# Altium integrated library Resistors.IntLib: 4954 symbols (part 4 of 32)
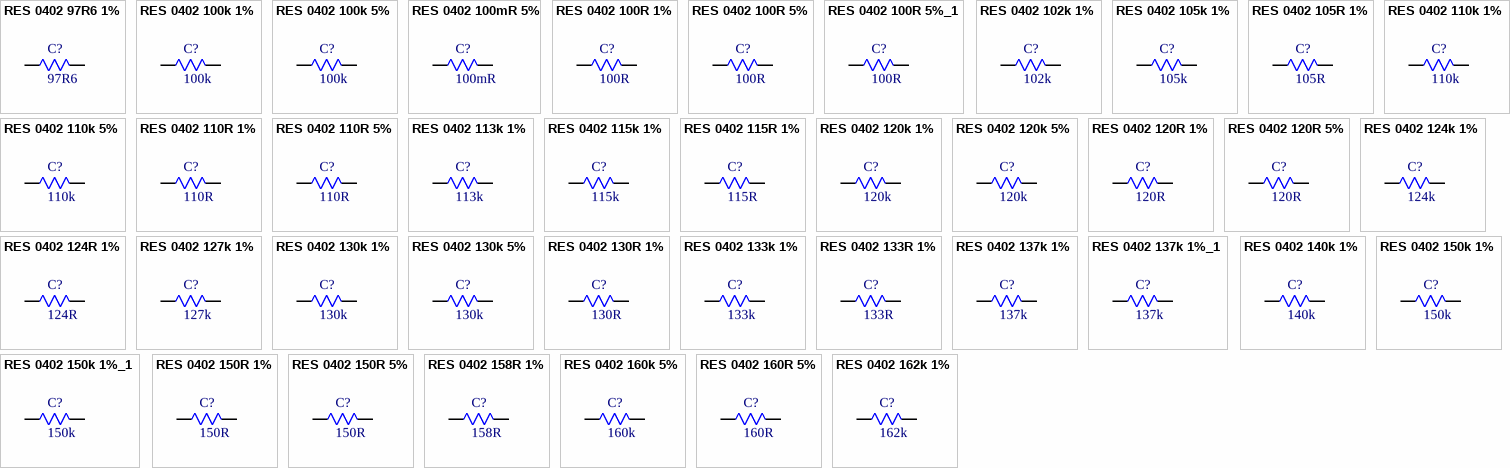
[diagram p126: symbols RES 0402 97R6 1% to RES 0402 162k 1%]

## RES 0402 158R 1%
designator C?, comment 158R
62.5mW 158R 50V Thick Film Resistor 100ppm/â„ƒ 1% 0402 Chip Resistor - Surface Mount RoHS; Manufacturer: FOJAN; Manufacturer Part Number: FRC0402F1580TS; Supplier: LCSC; Supplier Part Number: C48533705; Resistance: 158R; Tolerance: 1%; Voltage Rating: 50V; Power: 62.5mW
footprint RES SMD 0402
pins: 1, 2

## RES 0402 160k 5%
designator C?, comment 160k
62.5mW 160kR 50V Thick Film Resistor 5% 100ppm/â„ƒ 0402 Chip Resistor - Surface Mount RoHS; Manufacturer: FOJAN; Manufacturer Part Number: FRC0402J164 TS; Supplier: LCSC; Supplier Part Number: C7467320; Resistance: 160k; Tolerance: 5%; Voltage Rating: 50V; Power: 62.5mW
footprint RES SMD 0402
pins: 1, 2

## RES 0402 160R 5%
designator C?, comment 160R
160R 5% 62.5mW 0402 Thick Film Resistor; Manufacturer: FOJAN; Manufacturer Part Number: FRC0402J161TS; Voltage Rating: 50V; Supplier: LCSC; Supplier Part Number: C2929908; Resistance: 160R; Tolerance: 5%; Power: 62.5mW
footprint RES SMD 0402
pins: 1, 2

## RES 0402 162k 1%
designator C?, comment 162k
162kR 1% 62.5mW 0402 Thick Film Resistor; Manufacturer: FOJAN; Manufacturer Part Number: FRC0402F1623TS; Voltage Rating: 50V; Supplier: LCSC; Supplier Part Number: C2998128; Resistance: 162k; Tolerance: 1%; Power: 62.5mW
footprint RES SMD 0402
pins: 1, 2

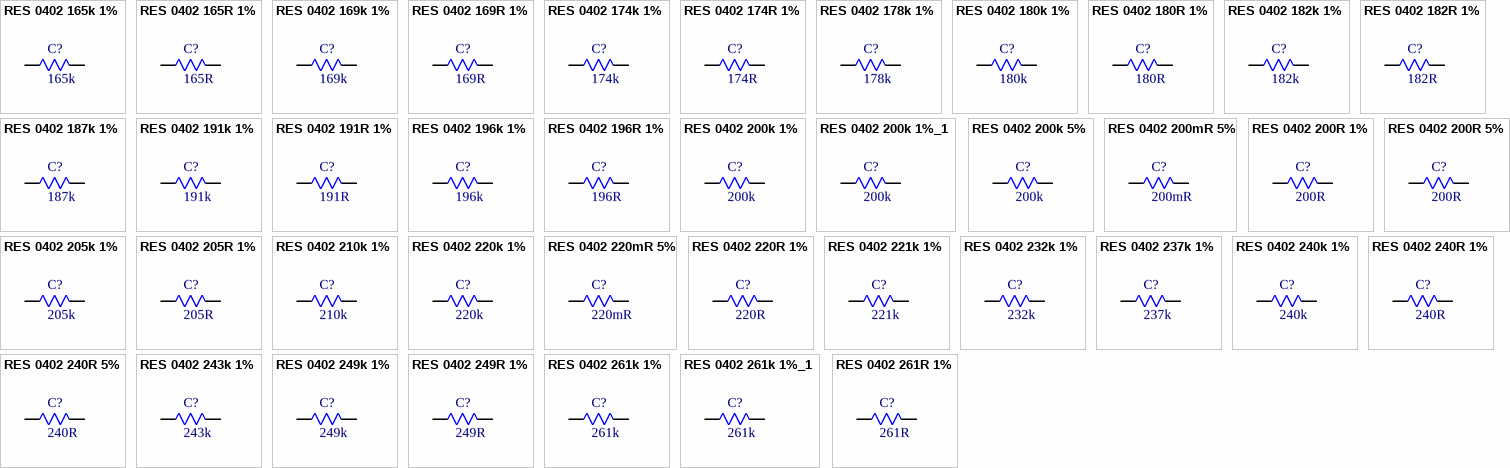
[diagram p12: symbols RES 0402 165k 1% to RES 0402 261R 1%]

## RES 0402 165k 1%
designator C?, comment 165k
165kR 1% 62.5mW 0402 Thick Film Resistor; Manufacturer: FOJAN; Manufacturer Part Number: FRC0402F1653TS; Voltage Rating: 50V; Supplier: LCSC; Supplier Part Number: C2998078; Resistance: 165k; Tolerance: 1%; Power: 62.5mW
footprint RES SMD 0402
pins: 1, 2

## RES 0402 165R 1%
designator C?, comment 165R
165R 1% 62.5mW 0402 Thick Film Resistor; Manufacturer: FOJAN; Manufacturer Part Number: FRC0402F1650TS; Voltage Rating: 50V; Supplier: LCSC; Supplier Part Number: C5159678; Resistance: 165R; Tolerance: 1%; Power: 62.5mW
footprint RES SMD 0402
pins: 1, 2

## RES 0402 169k 1%
designator C?, comment 169k
169kR 1% 62.5mW 0402 Thick Film Resistor; Manufacturer: FOJAN; Manufacturer Part Number: FRC0402F1693TS; Voltage Rating: 50V; Supplier: LCSC; Supplier Part Number: C2974012; Resistance: 169k; Tolerance: 1%; Power: 62.5mW
footprint RES SMD 0402
pins: 1, 2

## RES 0402 169R 1%
designator C?, comment 169R
169R 1% 62.5mW 0402 Thick Film Resistor; Manufacturer: FOJAN; Manufacturer Part Number: FRC0402F1690TS; Voltage Rating: 50V; Supplier: LCSC; Supplier Part Number: C5126024; Resistance: 169R; Tolerance: 1%; Power: 62.5mW
footprint RES SMD 0402
pins: 1, 2

## RES 0402 174k 1%
designator C?, comment 174k
174kR 62.5mW 50V Thick Film Resistor 1% 0402 Chip Resistor - Surface Mount RoHS; Manufacturer: FOJAN; Manufacturer Part Number: FRC0402F1743TS; Supplier: LCSC; Supplier Part Number: C51048350; Resistance: 174k; Tolerance: 1%; Voltage Rating: 50V; Power: 62.5mW
footprint RES SMD 0402
pins: 1, 2

## RES 0402 174R 1%
designator C?, comment 174R
174R 1% 62.5mW 0402 Thick Film Resistor; Manufacturer: FOJAN; Manufacturer Part Number: FRC0402F1740TS; Voltage Rating: 50V; Supplier: LCSC; Supplier Part Number: C5121513; Resistance: 174R; Tolerance: 1%; Power: 62.5mW
footprint RES SMD 0402
pins: 1, 2

## RES 0402 178k 1%
designator C?, comment 178k
178kR 1% 62.5mW 0402 Thick Film Resistor; Manufacturer: FOJAN; Manufacturer Part Number: FRC0402F1783TS; Voltage Rating: 50V; Supplier: LCSC; Supplier Part Number: C3013156; Resistance: 178k; Tolerance: 1%; Power: 62.5mW
footprint RES SMD 0402
pins: 1, 2

## RES 0402 180k 1%
designator C?, comment 180k
180kR 1% 62.5mW 0402 Thick Film Resistor; Manufacturer: FOJAN; Manufacturer Part Number: FRC0402F1803TS; Voltage Rating: 50V; Supplier: LCSC; Supplier Part Number: C2909325; Resistance: 180k; Tolerance: 1%; Power: 62.5mW
footprint RES SMD 0402
pins: 1, 2

## RES 0402 180R 1%
designator C?, comment 180R
180R 1% 62.5mW 0402 Thick Film Resistor; Manufacturer: FOJAN; Manufacturer Part Number: FRC0402F1800TS; Voltage Rating: 50V; Supplier: LCSC; Supplier Part Number: C2909326; Resistance: 180R; Tolerance: 1%; Power: 62.5mW
footprint RES SMD 0402
pins: 1, 2

## RES 0402 182k 1%
designator C?, comment 182k
182kR 1% 62.5mW 0402 Thick Film Resistor; Manufacturer: FOJAN; Manufacturer Part Number: FRC0402F1823TS; Voltage Rating: 50V; Supplier: LCSC; Supplier Part Number: C5159679; Resistance: 182k; Tolerance: 1%; Power: 62.5mW
footprint RES SMD 0402
pins: 1, 2

## RES 0402 182R 1%
designator C?, comment 182R
182R 1% 62.5mW 0402 Thick Film Resistor; Manufacturer: FOJAN; Manufacturer Part Number: FRC0402F1820TS; Voltage Rating: 50V; Supplier: LCSC; Supplier Part Number: C5121515; Resistance: 182R; Tolerance: 1%; Power: 62.5mW
footprint RES SMD 0402
pins: 1, 2

## RES 0402 187k 1%
designator C?, comment 187k
187kR 1% 62.5mW 0402 Thick Film Resistor; Manufacturer: FOJAN; Manufacturer Part Number: FRC0402F1873TS; Voltage Rating: 50V; Supplier: LCSC; Supplier Part Number: C2960791; Resistance: 187k; Tolerance: 1%; Power: 62.5mW
footprint RES SMD 0402
pins: 1, 2

## RES 0402 191k 1%
designator C?, comment 191k
191kR 1% 62.5mW 0402 Thick Film Resistor; Manufacturer: FOJAN; Manufacturer Part Number: FRC0402F1913TS; Voltage Rating: 50V; Supplier: LCSC; Supplier Part Number: C2998070; Resistance: 191k; Tolerance: 1%; Power: 62.5mW
footprint RES SMD 0402
pins: 1, 2

## RES 0402 191R 1%
designator C?, comment 191R
191R 1% 62.5mW 0402 Thick Film Resistor; Manufacturer: FOJAN; Manufacturer Part Number: FRC0402F1910TS; Voltage Rating: 50V; Supplier: LCSC; Supplier Part Number: C5126203; Resistance: 191R; Tolerance: 1%; Power: 62.5mW
footprint RES SMD 0402
pins: 1, 2

## RES 0402 196k 1%
designator C?, comment 196k
196kR 1% 62.5mW 0402 Thick Film Resistor; Manufacturer: FOJAN; Manufacturer Part Number: FRC0402F1963TS; Voltage Rating: 50V; Supplier: LCSC; Supplier Part Number: C3013157; Resistance: 196k; Tolerance: 1%; Power: 62.5mW
footprint RES SMD 0402
pins: 1, 2

## RES 0402 196R 1%
designator C?, comment 196R
62.5mW 196R 50V Thick Film Resistor 100ppm/â„ƒ 1% 0402 Chip Resistor - Surface Mount RoHS; Manufacturer: FOJAN; Manufacturer Part Number: FRC0402F1960TS; Supplier: LCSC; Supplier Part Number: C51048257; Resistance: 196R; Tolerance: 1%; Voltage Rating: 50V; Power: 62.5mW
footprint RES SMD 0402
pins: 1, 2

## RES 0402 200k 1%
designator C?, comment 200k
200kR 1% 62.5mW 0402 Thick Film Resistor; Manufacturer: FOJAN; Manufacturer Part Number: FRC0402F2003TS; Voltage Rating: 50V; Supplier: LCSC; Supplier Part Number: C2906866; Resistance: 200k; Tolerance: 1%; Power: 62.5mW
footprint RES SMD 0402
pins: 1, 2

## RES 0402 200k 1%_1
designator C?, comment 200k
200kR 62.5mW 50V Thick Film Resistor 1% 0402 Chip Resistor - Surface Mount RoHS; Manufacturer: FOJAN; Manufacturer Part Number: FRQ0402F2003TS; Supplier: LCSC; Supplier Part Number: C51048240; Resistance: 200k; Tolerance: 1%; Voltage Rating: 50V; Power: 62.5mW
footprint RES SMD 0402
pins: 1, 2

## RES 0402 200k 5%
designator C?, comment 200k
200kR 5% 62.5mW 0402 Thick Film Resistor; Manufacturer: FOJAN; Manufacturer Part Number: FRC0402J204 TS; Voltage Rating: 50V; Supplier: LCSC; Supplier Part Number: C2906907; Resistance: 200k; Tolerance: 5%; Power: 62.5mW
footprint RES SMD 0402
pins: 1, 2

## RES 0402 200mR 5%
designator C?, comment 200mR
62.5mW 200mR Thick Film Resistor 5% 600ppm/â„ƒ 0402 Chip Resistor - Surface Mount RoHS; Manufacturer: FOJAN; Manufacturer Part Number: FRL0402JR200TS; Supplier: LCSC; Supplier Part Number: C7467478; Resistance: 200mR; Tolerance: 5%; Power: 62.5mW
footprint RES SMD 0402
pins: 1, 2

## RES 0402 200R 1%
designator C?, comment 200R
200R 1% 62.5mW 0402 Thick Film Resistor; Manufacturer: FOJAN; Manufacturer Part Number: FRC0402F2000TS; Voltage Rating: 50V; Supplier: LCSC; Supplier Part Number: C2909333; Resistance: 200R; Tolerance: 1%; Power: 62.5mW
footprint RES SMD 0402
pins: 1, 2

## RES 0402 200R 5%
designator C?, comment 200R
200R 5% 62.5mW 0402 Thick Film Resistor; Manufacturer: FOJAN; Manufacturer Part Number: FRC0402J201 TS; Voltage Rating: 50V; Supplier: LCSC; Supplier Part Number: C2906908; Resistance: 200R; Tolerance: 5%; Power: 62.5mW
footprint RES SMD 0402
pins: 1, 2

## RES 0402 205k 1%
designator C?, comment 205k
205kR 1% 62.5mW 0402 Thick Film Resistor; Manufacturer: FOJAN; Manufacturer Part Number: FRC0402F2053TS; Voltage Rating: 50V; Supplier: LCSC; Supplier Part Number: C5713267; Resistance: 205k; Tolerance: 1%; Power: 62.5mW
footprint RES SMD 0402
pins: 1, 2

## RES 0402 205R 1%
designator C?, comment 205R
205R 1% 62.5mW 0402 Thick Film Resistor; Manufacturer: FOJAN; Manufacturer Part Number: FRC0402F2050TS; Voltage Rating: 50V; Supplier: LCSC; Supplier Part Number: C2933080; Resistance: 205R; Tolerance: 1%; Power: 62.5mW
footprint RES SMD 0402
pins: 1, 2

## RES 0402 210k 1%
designator C?, comment 210k
210kR 1% 62.5mW 0402 Thick Film Resistor; Manufacturer: FOJAN; Manufacturer Part Number: FRC0402F2103TS; Voltage Rating: 50V; Supplier: LCSC; Supplier Part Number: C2998176; Resistance: 210k; Tolerance: 1%; Power: 62.5mW
footprint RES SMD 0402
pins: 1, 2

## RES 0402 220k 1%
designator C?, comment 220k
220kR 1% 62.5mW 0402 Thick Film Resistor; Manufacturer: FOJAN; Manufacturer Part Number: FRC0402F2203TS; Voltage Rating: 50V; Supplier: LCSC; Supplier Part Number: C2909335; Resistance: 220k; Tolerance: 1%; Power: 62.5mW
footprint RES SMD 0402
pins: 1, 2

## RES 0402 220mR 5%
designator C?, comment 220mR
62.5mW 220mR Thick Film Resistor 300ppm/â„ƒ 5% 0402 Chip Resistor - Surface Mount RoHS; Manufacturer: FOJAN; Manufacturer Part Number: FRL0402JR220TS; Supplier: LCSC; Supplier Part Number: C7467765; Resistance: 220mR; Tolerance: 5%; Power: 62.5mW
footprint RES SMD 0402
pins: 1, 2

## RES 0402 220R 1%
designator C?, comment 220R
220R 1% 62.5mW 0402 Thick Film Resistor; Manufacturer: FOJAN; Manufacturer Part Number: FRC0402F2200TS; Voltage Rating: 50V; Supplier: LCSC; Supplier Part Number: C2909336; Resistance: 220R; Tolerance: 1%; Power: 62.5mW
footprint RES SMD 0402
pins: 1, 2

## RES 0402 221k 1%
designator C?, comment 221k
221kR 1% 62.5mW 0402 Thick Film Resistor; Manufacturer: FOJAN; Manufacturer Part Number: FRC0402F2213TS; Voltage Rating: 50V; Supplier: LCSC; Supplier Part Number: C2998126; Resistance: 221k; Tolerance: 1%; Power: 62.5mW
footprint RES SMD 0402
pins: 1, 2

## RES 0402 232k 1%
designator C?, comment 232k
232kR 1% 62.5mW 0402 Thick Film Resistor; Manufacturer: FOJAN; Manufacturer Part Number: FRC0402F2323TS; Voltage Rating: 50V; Supplier: LCSC; Supplier Part Number: C3013159; Resistance: 232k; Tolerance: 1%; Power: 62.5mW
footprint RES SMD 0402
pins: 1, 2

## RES 0402 237k 1%
designator C?, comment 237k
62.5mW 237kR 50V Thick Film Resistor 1% 100ppm/â„ƒ 0402 Chip Resistor - Surface Mount RoHS; Manufacturer: FOJAN; Manufacturer Part Number: FRC0402F2373TS; Supplier: LCSC; Supplier Part Number: C7467462; Resistance: 237k; Tolerance: 1%; Voltage Rating: 50V; Power: 62.5mW
footprint RES SMD 0402
pins: 1, 2

## RES 0402 240k 1%
designator C?, comment 240k
240kR 1% 62.5mW 0402 Thick Film Resistor; Manufacturer: FOJAN; Manufacturer Part Number: FRC0402F2403TS; Voltage Rating: 50V; Supplier: LCSC; Supplier Part Number: C2909338; Resistance: 240k; Tolerance: 1%; Power: 62.5mW
footprint RES SMD 0402
pins: 1, 2

## RES 0402 240R 1%
designator C?, comment 240R
240R 1% 62.5mW 0402 Thick Film Resistor; Manufacturer: FOJAN; Manufacturer Part Number: FRC0402F2400TS; Voltage Rating: 50V; Supplier: LCSC; Supplier Part Number: C2909339; Resistance: 240R; Tolerance: 1%; Power: 62.5mW
footprint RES SMD 0402
pins: 1, 2

## RES 0402 240R 5%
designator C?, comment 240R
240R 5% 62.5mW 0402 Thick Film Resistor; Manufacturer: FOJAN; Manufacturer Part Number: FRC0402J241 TS; Voltage Rating: 50V; Supplier: LCSC; Supplier Part Number: C2906916; Resistance: 240R; Tolerance: 5%; Power: 62.5mW
footprint RES SMD 0402
pins: 1, 2

## RES 0402 243k 1%
designator C?, comment 243k
243kR 1% 62.5mW 0402 Thick Film Resistor; Manufacturer: FOJAN; Manufacturer Part Number: FRC0402F2433TS; Voltage Rating: 50V; Supplier: LCSC; Supplier Part Number: C2998149; Resistance: 243k; Tolerance: 1%; Power: 62.5mW
footprint RES SMD 0402
pins: 1, 2

## RES 0402 249k 1%
designator C?, comment 249k
249kR 1% 62.5mW 0402 Thick Film Resistor; Manufacturer: FOJAN; Manufacturer Part Number: FRC0402F2493TS; Voltage Rating: 50V; Supplier: LCSC; Supplier Part Number: C2998084; Resistance: 249k; Tolerance: 1%; Power: 62.5mW
footprint RES SMD 0402
pins: 1, 2

## RES 0402 249R 1%
designator C?, comment 249R
62.5mW 249R 50V Thick Film Resistor 100ppm/â„ƒ 1% 0402 Chip Resistor - Surface Mount RoHS; Manufacturer: FOJAN; Manufacturer Part Number: FRC0402F2490TS; Supplier: LCSC; Supplier Part Number: C49196896; Resistance: 249R; Tolerance: 1%; Voltage Rating: 50V; Power: 62.5mW
footprint RES SMD 0402
pins: 1, 2

## RES 0402 261k 1%
designator C?, comment 261k
261kR 1% 62.5mW 0402 Thick Film Resistor; Manufacturer: FOJAN; Manufacturer Part Number: FRC0402F2613TS; Voltage Rating: 50V; Supplier: LCSC; Supplier Part Number: C2998071; Resistance: 261k; Tolerance: 1%; Power: 62.5mW
footprint RES SMD 0402
pins: 1, 2

## RES 0402 261k 1%_1
designator C?, comment 261k
261kR 62.5mW 50V Thick Film Resistor 1% 0402 Chip Resistor - Surface Mount RoHS; Manufacturer: FOJAN; Manufacturer Part Number: FRQ0402F2613TS; Supplier: LCSC; Supplier Part Number: C52033542; Resistance: 261k; Tolerance: 1%; Voltage Rating: 50V; Power: 62.5mW
footprint RES SMD 0402
pins: 1, 2

## RES 0402 261R 1%
designator C?, comment 261R
62.5mW 261R 50V Thick Film Resistor 1% 100ppm/â„ƒ 0402 Chip Resistor - Surface Mount RoHS; Manufacturer: FOJAN; Manufacturer Part Number: FRC0402F2610TS; Supplier: LCSC; Supplier Part Number: C7467416; Resistance: 261R; Tolerance: 1%; Voltage Rating: 50V; Power: 62.5mW
footprint RES SMD 0402
pins: 1, 2

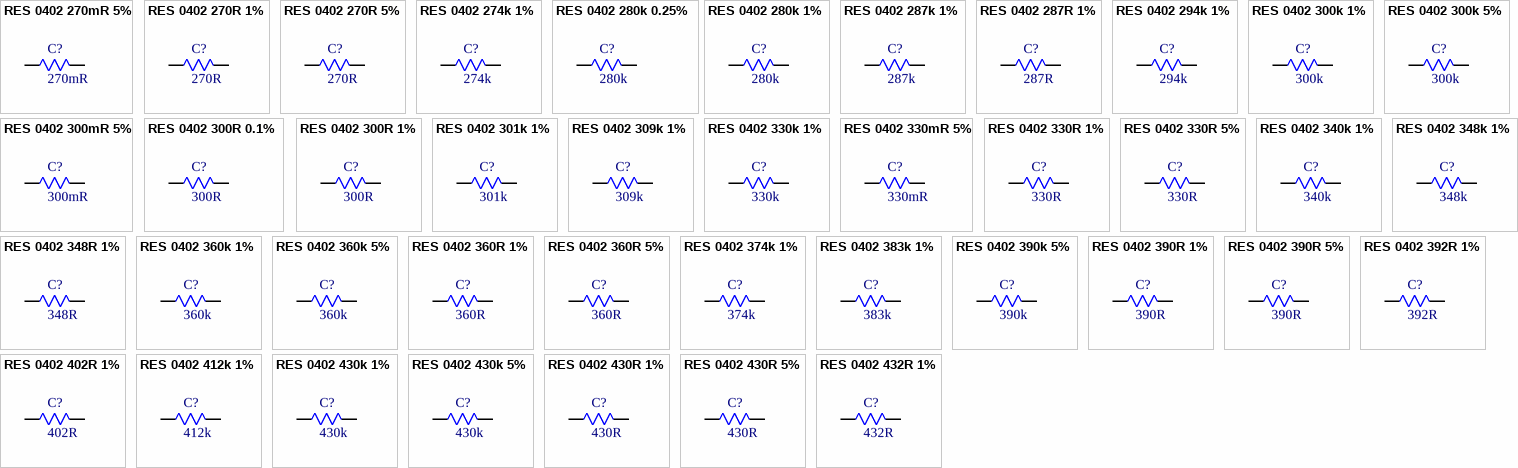
[diagram p13: symbols RES 0402 270mR 5% to RES 0402 432R 1%]

## RES 0402 270mR 5%
designator C?, comment 270mR
270mR 5% 62.5mW 0402 Thick Film Resistor; Manufacturer: FOJAN; Manufacturer Part Number: FRL0402JR270TS; Voltage Rating: 100V; Supplier: LCSC; Supplier Part Number: C5126015; Resistance: 270mR; Tolerance: 5%; Power: 62.5mW
footprint RES SMD 0402
pins: 1, 2

## RES 0402 270R 1%
designator C?, comment 270R
270R 1% 62.5mW 0402 Thick Film Resistor; Manufacturer: FOJAN; Manufacturer Part Number: FRC0402F2700TS; Voltage Rating: 50V; Supplier: LCSC; Supplier Part Number: C2909342; Resistance: 270R; Tolerance: 1%; Power: 62.5mW
footprint RES SMD 0402
pins: 1, 2

## RES 0402 270R 5%
designator C?, comment 270R
270R 5% 62.5mW 0402 Thick Film Resistor; Manufacturer: FOJAN; Manufacturer Part Number: FRC0402J271 TS; Voltage Rating: 50V; Supplier: LCSC; Supplier Part Number: C2906919; Resistance: 270R; Tolerance: 5%; Power: 62.5mW
footprint RES SMD 0402
pins: 1, 2

## RES 0402 274k 1%
designator C?, comment 274k
274kR 1% 62.5mW 0402 Thick Film Resistor; Manufacturer: FOJAN; Manufacturer Part Number: FRC0402F2743TS; Voltage Rating: 50V; Supplier: LCSC; Supplier Part Number: C5121522; Resistance: 274k; Tolerance: 1%; Power: 62.5mW
footprint RES SMD 0402
pins: 1, 2

## RES 0402 280k 0.25%
designator C?, comment 280k
62.5mW 280kR Thick Film Resistor 100ppm/â„ƒ 0.25% 0402 Chip Resistor - Surface Mount RoHS; Manufacturer: FOJAN; Manufacturer Part Number: FRH0402D2803TS; Supplier: LCSC; Supplier Part Number: C42372203; Resistance: 280k; Tolerance: 0.25%; Power: 62.5mW
footprint RES SMD 0402
pins: 1, 2

## RES 0402 280k 1%
designator C?, comment 280k
280kR 1% 62.5mW 0402 Thick Film Resistor; Manufacturer: FOJAN; Manufacturer Part Number: FRC0402F2803TS; Voltage Rating: 50V; Supplier: LCSC; Supplier Part Number: C2929997; Resistance: 280k; Tolerance: 1%; Power: 62.5mW
footprint RES SMD 0402
pins: 1, 2

## RES 0402 287k 1%
designator C?, comment 287k
287kR 1% 62.5mW 0402 Thick Film Resistor; Manufacturer: FOJAN; Manufacturer Part Number: FRC0402F2873TS; Voltage Rating: 50V; Supplier: LCSC; Supplier Part Number: C5126158; Resistance: 287k; Tolerance: 1%; Power: 62.5mW
footprint RES SMD 0402
pins: 1, 2

## RES 0402 287R 1%
designator C?, comment 287R
62.5mW 287R 50V Thick Film Resistor 100ppm/â„ƒ 1% 0402 Chip Resistor - Surface Mount RoHS; Manufacturer: FOJAN; Manufacturer Part Number: FRC0402F2870TS; Supplier: LCSC; Supplier Part Number: C49196897; Resistance: 287R; Tolerance: 1%; Voltage Rating: 50V; Power: 62.5mW
footprint RES SMD 0402
pins: 1, 2

## RES 0402 294k 1%
designator C?, comment 294k
294kR 1% 62.5mW 0402 Thick Film Resistor; Manufacturer: FOJAN; Manufacturer Part Number: FRC0402F2943TS; Voltage Rating: 50V; Supplier: LCSC; Supplier Part Number: C3013161; Resistance: 294k; Tolerance: 1%; Power: 62.5mW
footprint RES SMD 0402
pins: 1, 2

## RES 0402 300k 1%
designator C?, comment 300k
300kR 1% 62.5mW 0402 Thick Film Resistor; Manufacturer: FOJAN; Manufacturer Part Number: FRC0402F3003TS; Voltage Rating: 50V; Supplier: LCSC; Supplier Part Number: C2929999; Resistance: 300k; Tolerance: 1%; Power: 62.5mW
footprint RES SMD 0402
pins: 1, 2

## RES 0402 300k 5%
designator C?, comment 300k
300kR 5% 62.5mW 0402 Thick Film Resistor; Manufacturer: FOJAN; Manufacturer Part Number: FRC0402J304 TS; Voltage Rating: 50V; Supplier: LCSC; Supplier Part Number: C2906926; Resistance: 300k; Tolerance: 5%; Power: 62.5mW
footprint RES SMD 0402
pins: 1, 2

## RES 0402 300mR 5%
designator C?, comment 300mR
300mR 5% 62.5mW 0402 Thick Film Resistor; Manufacturer: FOJAN; Manufacturer Part Number: FRL0402JR300TS; Voltage Rating: 100V; Supplier: LCSC; Supplier Part Number: C5126014; Resistance: 300mR; Tolerance: 5%; Power: 62.5mW
footprint RES SMD 0402
pins: 1, 2

## RES 0402 300R 0.1%
designator C?, comment 300R
62.5mW 300R 50V Thick Film Resistor 100ppm/â„ƒ 0.1% 0402 Chip Resistor - Surface Mount RoHS; Manufacturer: FOJAN; Manufacturer Part Number: FRH0402B3000TS; Supplier: LCSC; Supplier Part Number: C49196869; Resistance: 300R; Tolerance: 0.1%; Voltage Rating: 50V; Power: 62.5mW
footprint RES SMD 0402
pins: 1, 2

## RES 0402 300R 1%
designator C?, comment 300R
300R 1% 62.5mW 0402 Thick Film Resistor; Manufacturer: FOJAN; Manufacturer Part Number: FRC0402F3000TS; Voltage Rating: 50V; Supplier: LCSC; Supplier Part Number: C2930000; Resistance: 300R; Tolerance: 1%; Power: 62.5mW
footprint RES SMD 0402
pins: 1, 2

## RES 0402 301k 1%
designator C?, comment 301k
301kR 1% 62.5mW 0402 Thick Film Resistor; Manufacturer: FOJAN; Manufacturer Part Number: FRC0402F3013TS; Voltage Rating: 50V; Supplier: LCSC; Supplier Part Number: C3013162; Resistance: 301k; Tolerance: 1%; Power: 62.5mW
footprint RES SMD 0402
pins: 1, 2

## RES 0402 309k 1%
designator C?, comment 309k
309kR 1% 62.5mW 0402 Thick Film Resistor; Manufacturer: FOJAN; Manufacturer Part Number: FRC0402F3093TS; Voltage Rating: 50V; Supplier: LCSC; Supplier Part Number: C5713270; Resistance: 309k; Tolerance: 1%; Power: 62.5mW
footprint RES SMD 0402
pins: 1, 2

## RES 0402 330k 1%
designator C?, comment 330k
330kR 1% 62.5mW 0402 Thick Film Resistor; Manufacturer: FOJAN; Manufacturer Part Number: FRC0402F3303TS; Voltage Rating: 50V; Supplier: LCSC; Supplier Part Number: C2909349; Resistance: 330k; Tolerance: 1%; Power: 62.5mW
footprint RES SMD 0402
pins: 1, 2

## RES 0402 330mR 5%
designator C?, comment 330mR
330mR 5% 62.5mW 0402 Thick Film Resistor; Manufacturer: FOJAN; Manufacturer Part Number: FRL0402JR330TS; Voltage Rating: 100V; Supplier: LCSC; Supplier Part Number: C5126013; Resistance: 330mR; Tolerance: 5%; Power: 62.5mW
footprint RES SMD 0402
pins: 1, 2

## RES 0402 330R 1%
designator C?, comment 330R
330R 1% 62.5mW 0402 Thick Film Resistor; Manufacturer: FOJAN; Manufacturer Part Number: FRC0402F3300TS; Voltage Rating: 50V; Supplier: LCSC; Supplier Part Number: C2930002; Resistance: 330R; Tolerance: 1%; Power: 62.5mW
footprint RES SMD 0402
pins: 1, 2

## RES 0402 330R 5%
designator C?, comment 330R
330R 5% 62.5mW 0402 Thick Film Resistor; Manufacturer: FOJAN; Manufacturer Part Number: FRC0402J331 TS; Voltage Rating: 50V; Supplier: LCSC; Supplier Part Number: C2906929; Resistance: 330R; Tolerance: 5%; Power: 62.5mW
footprint RES SMD 0402
pins: 1, 2

## RES 0402 340k 1%
designator C?, comment 340k
340kR 1% 62.5mW 0402 Thick Film Resistor; Manufacturer: FOJAN; Manufacturer Part Number: FRC0402F3403TS; Voltage Rating: 50V; Supplier: LCSC; Supplier Part Number: C2933090; Resistance: 340k; Tolerance: 1%; Power: 62.5mW
footprint RES SMD 0402
pins: 1, 2

## RES 0402 348k 1%
designator C?, comment 348k
348kR 1% 62.5mW 0402 Thick Film Resistor; Manufacturer: FOJAN; Manufacturer Part Number: FRC0402F3483TS; Voltage Rating: 50V; Supplier: LCSC; Supplier Part Number: C5159684; Resistance: 348k; Tolerance: 1%; Power: 62.5mW
footprint RES SMD 0402
pins: 1, 2

## RES 0402 348R 1%
designator C?, comment 348R
348R 1% 62.5mW 0402 Thick Film Resistor; Manufacturer: FOJAN; Manufacturer Part Number: FRC0402F3480TS; Voltage Rating: 50V; Supplier: LCSC; Supplier Part Number: C2933091; Resistance: 348R; Tolerance: 1%; Power: 62.5mW
footprint RES SMD 0402
pins: 1, 2

## RES 0402 360k 1%
designator C?, comment 360k
360kR 1% 62.5mW 0402 Thick Film Resistor; Manufacturer: FOJAN; Manufacturer Part Number: FRC0402F3603TS; Voltage Rating: 50V; Supplier: LCSC; Supplier Part Number: C2909351; Resistance: 360k; Tolerance: 1%; Power: 62.5mW
footprint RES SMD 0402
pins: 1, 2

## RES 0402 360k 5%
designator C?, comment 360k
360kR 5% 62.5mW 0402 Thick Film Resistor; Manufacturer: FOJAN; Manufacturer Part Number: FRC0402J364 TS; Voltage Rating: 50V; Supplier: LCSC; Supplier Part Number: C2906932; Resistance: 360k; Tolerance: 5%; Power: 62.5mW
footprint RES SMD 0402
pins: 1, 2

## RES 0402 360R 1%
designator C?, comment 360R
62.5mW 360R Thick Film Resistor 1% 100ppm/â„ƒ 0402 Chip Resistor - Surface Mount RoHS; Manufacturer: FOJAN; Manufacturer Part Number: FRQ0402F3600TS; Supplier: LCSC; Supplier Part Number: C7468693; Resistance: 360R; Tolerance: 1%; Power: 62.5mW
footprint RES SMD 0402
pins: 1, 2

## RES 0402 360R 5%
designator C?, comment 360R
360R 5% 62.5mW 0402 Thick Film Resistor; Manufacturer: FOJAN; Manufacturer Part Number: FRC0402J361 TS; Voltage Rating: 50V; Supplier: LCSC; Supplier Part Number: C2906933; Resistance: 360R; Tolerance: 5%; Power: 62.5mW
footprint RES SMD 0402
pins: 1, 2

## RES 0402 374k 1%
designator C?, comment 374k
62.5mW 374kR 50V Thick Film Resistor 100ppm/â„ƒ 1% 0402 Chip Resistor - Surface Mount RoHS; Manufacturer: FOJAN; Manufacturer Part Number: FRC0402F3743TS; Supplier: LCSC; Supplier Part Number: C48533741; Resistance: 374k; Tolerance: 1%; Voltage Rating: 50V; Power: 62.5mW
footprint RES SMD 0402
pins: 1, 2

## RES 0402 383k 1%
designator C?, comment 383k
383kR 1% 62.5mW 0402 Thick Film Resistor; Manufacturer: FOJAN; Manufacturer Part Number: FRC0402F3833TS; Voltage Rating: 50V; Supplier: LCSC; Supplier Part Number: C5126206; Resistance: 383k; Tolerance: 1%; Power: 62.5mW
footprint RES SMD 0402
pins: 1, 2

## RES 0402 390k 5%
designator C?, comment 390k
390kR 5% 62.5mW 0402 Thick Film Resistor; Manufacturer: FOJAN; Manufacturer Part Number: FRC0402J394 TS; Voltage Rating: 50V; Supplier: LCSC; Supplier Part Number: C2906936; Resistance: 390k; Tolerance: 5%; Power: 62.5mW
footprint RES SMD 0402
pins: 1, 2

## RES 0402 390R 1%
designator C?, comment 390R
390R 1% 62.5mW 0402 Thick Film Resistor; Manufacturer: FOJAN; Manufacturer Part Number: FRC0402F3900TS; Voltage Rating: 50V; Supplier: LCSC; Supplier Part Number: C2909353; Resistance: 390R; Tolerance: 1%; Power: 62.5mW
footprint RES SMD 0402
pins: 1, 2

## RES 0402 390R 5%
designator C?, comment 390R
390R 5% 62.5mW 0402 Thick Film Resistor; Manufacturer: FOJAN; Manufacturer Part Number: FRC0402J391 TS; Voltage Rating: 50V; Supplier: LCSC; Supplier Part Number: C2906937; Resistance: 390R; Tolerance: 5%; Power: 62.5mW
footprint RES SMD 0402
pins: 1, 2

## RES 0402 392R 1%
designator C?, comment 392R
392R 1% 62.5mW 0402 Thick Film Resistor; Manufacturer: FOJAN; Manufacturer Part Number: FRC0402F3920TS; Voltage Rating: 50V; Supplier: LCSC; Supplier Part Number: C3013168; Resistance: 392R; Tolerance: 1%; Power: 62.5mW
footprint RES SMD 0402
pins: 1, 2

## RES 0402 402R 1%
designator C?, comment 402R
402R 1% 62.5mW 0402 Thick Film Resistor; Manufacturer: FOJAN; Manufacturer Part Number: FRC0402F4020TS; Voltage Rating: 50V; Supplier: LCSC; Supplier Part Number: C2933096; Resistance: 402R; Tolerance: 1%; Power: 62.5mW
footprint RES SMD 0402
pins: 1, 2

## RES 0402 412k 1%
designator C?, comment 412k
412kR 1% 62.5mW 0402 Thick Film Resistor; Manufacturer: FOJAN; Manufacturer Part Number: FRC0402F4123TS; Voltage Rating: 50V; Supplier: LCSC; Supplier Part Number: C5126037; Resistance: 412k; Tolerance: 1%; Power: 62.5mW
footprint RES SMD 0402
pins: 1, 2

## RES 0402 430k 1%
designator C?, comment 430k
430kR 1% 62.5mW 0402 Thick Film Resistor; Manufacturer: FOJAN; Manufacturer Part Number: FRC0402F4303TS; Voltage Rating: 50V; Supplier: LCSC; Supplier Part Number: C2909357; Resistance: 430k; Tolerance: 1%; Power: 62.5mW
footprint RES SMD 0402
pins: 1, 2

## RES 0402 430k 5%
designator C?, comment 430k
430kR 5% 62.5mW 0402 Thick Film Resistor; Manufacturer: FOJAN; Manufacturer Part Number: FRC0402J434 TS; Voltage Rating: 50V; Supplier: LCSC; Supplier Part Number: C3013191; Resistance: 430k; Tolerance: 5%; Power: 62.5mW
footprint RES SMD 0402
pins: 1, 2

## RES 0402 430R 1%
designator C?, comment 430R
430R 1% 62.5mW 0402 Thick Film Resistor; Manufacturer: FOJAN; Manufacturer Part Number: FRC0402F4300TS; Voltage Rating: 50V; Supplier: LCSC; Supplier Part Number: C2909358; Resistance: 430R; Tolerance: 1%; Power: 62.5mW
footprint RES SMD 0402
pins: 1, 2

## RES 0402 430R 5%
designator C?, comment 430R
430R 5% 62.5mW 0402 Thick Film Resistor; Manufacturer: FOJAN; Manufacturer Part Number: FRC0402J431TS; Voltage Rating: 50V; Supplier: LCSC; Supplier Part Number: C2929922; Resistance: 430R; Tolerance: 5%; Power: 62.5mW
footprint RES SMD 0402
pins: 1, 2

## RES 0402 432R 1%
designator C?, comment 432R
432R 1% 62.5mW 0402 Thick Film Resistor; Manufacturer: FOJAN; Manufacturer Part Number: FRC0402F4320TS; Voltage Rating: 50V; Supplier: LCSC; Supplier Part Number: C2998077; Resistance: 432R; Tolerance: 1%; Power: 62.5mW
footprint RES SMD 0402
pins: 1, 2

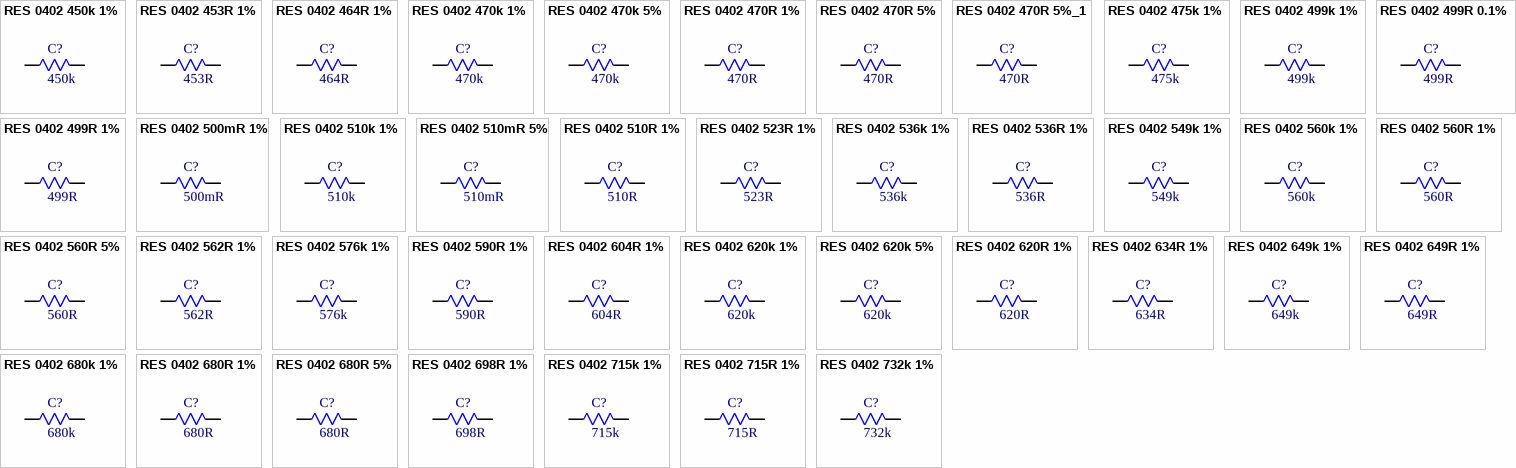
[diagram p14: symbols RES 0402 450k 1% to RES 0402 732k 1%]

## RES 0402 450k 1%
designator C?, comment 450k
450kR 1% 62.5mW 0402 Thick Film Resistor; Manufacturer: FOJAN; Manufacturer Part Number: FRC0402F4503TS; Voltage Rating: 50V; Supplier: LCSC; Supplier Part Number: C5159688; Resistance: 450k; Tolerance: 1%; Power: 62.5mW
footprint RES SMD 0402
pins: 1, 2

## RES 0402 453R 1%
designator C?, comment 453R
453R 1% 62.5mW 0402 Thick Film Resistor; Manufacturer: FOJAN; Manufacturer Part Number: FRC0402F4530TS; Voltage Rating: 50V; Supplier: LCSC; Supplier Part Number: C5126227; Resistance: 453R; Tolerance: 1%; Power: 62.5mW
footprint RES SMD 0402
pins: 1, 2

## RES 0402 464R 1%
designator C?, comment 464R
62.5mW 464R 50V Thick Film Resistor 100ppm/â„ƒ 1% 0402 Chip Resistor - Surface Mount RoHS; Manufacturer: FOJAN; Manufacturer Part Number: FRC0402F4640TS; Supplier: LCSC; Supplier Part Number: C49196927; Resistance: 464R; Tolerance: 1%; Voltage Rating: 50V; Power: 62.5mW
footprint RES SMD 0402
pins: 1, 2

## RES 0402 470k 1%
designator C?, comment 470k
470kR 1% 62.5mW 0402 Thick Film Resistor; Manufacturer: FOJAN; Manufacturer Part Number: FRC0402F4703TS; Voltage Rating: 50V; Supplier: LCSC; Supplier Part Number: C2906871; Resistance: 470k; Tolerance: 1%; Power: 62.5mW
footprint RES SMD 0402
pins: 1, 2

## RES 0402 470k 5%
designator C?, comment 470k
470kR 5% 62.5mW 0402 Thick Film Resistor; Manufacturer: FOJAN; Manufacturer Part Number: FRC0402J474 TS; Voltage Rating: 50V; Supplier: LCSC; Supplier Part Number: C2906944; Resistance: 470k; Tolerance: 5%; Power: 62.5mW
footprint RES SMD 0402
pins: 1, 2

## RES 0402 470R 1%
designator C?, comment 470R
470R 1% 62.5mW 0402 Thick Film Resistor; Manufacturer: FOJAN; Manufacturer Part Number: FRC0402F4700TS; Voltage Rating: 50V; Supplier: LCSC; Supplier Part Number: C2909361; Resistance: 470R; Tolerance: 1%; Power: 62.5mW
footprint RES SMD 0402
pins: 1, 2

## RES 0402 470R 5%
designator C?, comment 470R
470R 5% 62.5mW 0402 Thick Film Resistor; Manufacturer: FOJAN; Manufacturer Part Number: FRC0402J471 TS; Voltage Rating: 50V; Supplier: LCSC; Supplier Part Number: C2906945; Resistance: 470R; Tolerance: 5%; Power: 62.5mW
footprint RES SMD 0402
pins: 1, 2

## RES 0402 470R 5%_1
designator C?, comment 470R
62.5mW 470R Thick Film Resistor 5% 100ppm/â„ƒ 0402 Chip Resistor - Surface Mount RoHS; Manufacturer: FOJAN; Manufacturer Part Number: FRQ0402J471 TS; Supplier: LCSC; Supplier Part Number: C7468673; Resistance: 470R; Tolerance: 5%; Power: 62.5mW
footprint RES SMD 0402
pins: 1, 2

## RES 0402 475k 1%
designator C?, comment 475k
475kR 1% 62.5mW 0402 Thick Film Resistor; Manufacturer: FOJAN; Manufacturer Part Number: FRC0402F4753TS; Voltage Rating: 50V; Supplier: LCSC; Supplier Part Number: C5713272; Resistance: 475k; Tolerance: 1%; Power: 62.5mW
footprint RES SMD 0402
pins: 1, 2

## RES 0402 499k 1%
designator C?, comment 499k
499kR 1% 62.5mW 0402 Thick Film Resistor; Manufacturer: FOJAN; Manufacturer Part Number: FRC0402F4993TS; Voltage Rating: 50V; Supplier: LCSC; Supplier Part Number: C2998054; Resistance: 499k; Tolerance: 1%; Power: 62.5mW
footprint RES SMD 0402
pins: 1, 2

## RES 0402 499R 0.1%
designator C?, comment 499R
499R 0.1% 62.5mW 0402 Thick Film Resistor; Manufacturer: FOJAN; Manufacturer Part Number: FRH0402B4990TS; Voltage Rating: 50V; Supplier: LCSC; Supplier Part Number: C5713383; Resistance: 499R; Tolerance: 0.1%; Power: 62.5mW
footprint RES SMD 0402
pins: 1, 2

## RES 0402 499R 1%
designator C?, comment 499R
499R 1% 62.5mW 0402 Thick Film Resistor; Manufacturer: FOJAN; Manufacturer Part Number: FRC0402F4990TS; Voltage Rating: 50V; Supplier: LCSC; Supplier Part Number: C2960788; Resistance: 499R; Tolerance: 1%; Power: 62.5mW
footprint RES SMD 0402
pins: 1, 2

## RES 0402 500mR 1%
designator C?, comment 500mR
500mR 1% 62.5mW 0402 Thick Film Resistor; Manufacturer: FOJAN; Manufacturer Part Number: FRL0402FR500TS; Voltage Rating: 100V; Supplier: LCSC; Supplier Part Number: C5204041; Resistance: 500mR; Tolerance: 1%; Power: 62.5mW
footprint RES SMD 0402
pins: 1, 2

## RES 0402 510k 1%
designator C?, comment 510k
510kR 1% 62.5mW 0402 Thick Film Resistor; Manufacturer: FOJAN; Manufacturer Part Number: FRC0402F5103TS; Voltage Rating: 50V; Supplier: LCSC; Supplier Part Number: C2909365; Resistance: 510k; Tolerance: 1%; Power: 62.5mW
footprint RES SMD 0402
pins: 1, 2

## RES 0402 510mR 5%
designator C?, comment 510mR
510mR 5% 62.5mW 0402 Thick Film Resistor; Manufacturer: FOJAN; Manufacturer Part Number: FRL0402JR510TS; Voltage Rating: 100V; Supplier: LCSC; Supplier Part Number: C5159695; Resistance: 510mR; Tolerance: 5%; Power: 62.5mW
footprint RES SMD 0402
pins: 1, 2

## RES 0402 510R 1%
designator C?, comment 510R
510R 1% 62.5mW 0402 Thick Film Resistor; Manufacturer: FOJAN; Manufacturer Part Number: FRC0402F5100TS; Voltage Rating: 50V; Supplier: LCSC; Supplier Part Number: C2909366; Resistance: 510R; Tolerance: 1%; Power: 62.5mW
footprint RES SMD 0402
pins: 1, 2

## RES 0402 523R 1%
designator C?, comment 523R
523R 1% 62.5mW 0402 Thick Film Resistor; Manufacturer: FOJAN; Manufacturer Part Number: FRC0402F5230TS; Voltage Rating: 50V; Supplier: LCSC; Supplier Part Number: C5159691; Resistance: 523R; Tolerance: 1%; Power: 62.5mW
footprint RES SMD 0402
pins: 1, 2

## RES 0402 536k 1%
designator C?, comment 536k
62.5mW 536kR 50V Thick Film Resistor 1% 0402 Chip Resistor - Surface Mount RoHS; Manufacturer: FOJAN; Manufacturer Part Number: FRC0402F5363TS; Supplier: LCSC; Supplier Part Number: C51048215; Resistance: 536k; Tolerance: 1%; Voltage Rating: 50V; Power: 62.5mW
footprint RES SMD 0402
pins: 1, 2

## RES 0402 536R 1%
designator C?, comment 536R
536R 1% 62.5mW 0402 Thick Film Resistor; Manufacturer: FOJAN; Manufacturer Part Number: FRC0402F5360TS; Voltage Rating: 50V; Supplier: LCSC; Supplier Part Number: C5153974; Resistance: 536R; Tolerance: 1%; Power: 62.5mW
footprint RES SMD 0402
pins: 1, 2

## RES 0402 549k 1%
designator C?, comment 549k
549kR 1% 62.5mW 0402 Thick Film Resistor; Manufacturer: FOJAN; Manufacturer Part Number: FRC0402F5493TS; Voltage Rating: 50V; Supplier: LCSC; Supplier Part Number: C5713273; Resistance: 549k; Tolerance: 1%; Power: 62.5mW
footprint RES SMD 0402
pins: 1, 2

## RES 0402 560k 1%
designator C?, comment 560k
560kR 1% 62.5mW 0402 Thick Film Resistor; Manufacturer: FOJAN; Manufacturer Part Number: FRC0402F5603TS; Voltage Rating: 50V; Supplier: LCSC; Supplier Part Number: C2909369; Resistance: 560k; Tolerance: 1%; Power: 62.5mW
footprint RES SMD 0402
pins: 1, 2

## RES 0402 560R 1%
designator C?, comment 560R
560R 1% 62.5mW 0402 Thick Film Resistor; Manufacturer: FOJAN; Manufacturer Part Number: FRC0402F5600TS; Voltage Rating: 50V; Supplier: LCSC; Supplier Part Number: C2909370; Resistance: 560R; Tolerance: 1%; Power: 62.5mW
footprint RES SMD 0402
pins: 1, 2

## RES 0402 560R 5%
designator C?, comment 560R
560R 5% 62.5mW 0402 Thick Film Resistor; Manufacturer: FOJAN; Manufacturer Part Number: FRC0402J561 TS; Voltage Rating: 50V; Supplier: LCSC; Supplier Part Number: C2933118; Resistance: 560R; Tolerance: 5%; Power: 62.5mW
footprint RES SMD 0402
pins: 1, 2

## RES 0402 562R 1%
designator C?, comment 562R
562R 1% 62.5mW 0402 Thick Film Resistor; Manufacturer: FOJAN; Manufacturer Part Number: FRC0402F5620TS; Voltage Rating: 50V; Supplier: LCSC; Supplier Part Number: C2998087; Resistance: 562R; Tolerance: 1%; Power: 62.5mW
footprint RES SMD 0402
pins: 1, 2

## RES 0402 576k 1%
designator C?, comment 576k
576kR 62.5mW 50V Thick Film Resistor 1% 0402 Chip Resistor - Surface Mount RoHS; Manufacturer: FOJAN; Manufacturer Part Number: FRC0402F5763TS; Supplier: LCSC; Supplier Part Number: C51048221; Resistance: 576k; Tolerance: 1%; Voltage Rating: 50V; Power: 62.5mW
footprint RES SMD 0402
pins: 1, 2

## RES 0402 590R 1%
designator C?, comment 590R
590R 1% 62.5mW 0402 Thick Film Resistor; Manufacturer: FOJAN; Manufacturer Part Number: FRC0402F5900TS; Voltage Rating: 50V; Supplier: LCSC; Supplier Part Number: C2998181; Resistance: 590R; Tolerance: 1%; Power: 62.5mW
footprint RES SMD 0402
pins: 1, 2

## RES 0402 604R 1%
designator C?, comment 604R
604R 1% 62.5mW 0402 Thick Film Resistor; Manufacturer: FOJAN; Manufacturer Part Number: FRC0402F6040TS; Voltage Rating: 50V; Supplier: LCSC; Supplier Part Number: C2998094; Resistance: 604R; Tolerance: 1%; Power: 62.5mW
footprint RES SMD 0402
pins: 1, 2

## RES 0402 620k 1%
designator C?, comment 620k
620kR 1% 62.5mW 0402 Thick Film Resistor; Manufacturer: FOJAN; Manufacturer Part Number: FRC0402F6203TS; Voltage Rating: 50V; Supplier: LCSC; Supplier Part Number: C2909373; Resistance: 620k; Tolerance: 1%; Power: 62.5mW
footprint RES SMD 0402
pins: 1, 2

## RES 0402 620k 5%
designator C?, comment 620k
620kR 5% 62.5mW 0402 Thick Film Resistor; Manufacturer: FOJAN; Manufacturer Part Number: FRC0402J624 TS; Voltage Rating: 50V; Supplier: LCSC; Supplier Part Number: C2998168; Resistance: 620k; Tolerance: 5%; Power: 62.5mW
footprint RES SMD 0402
pins: 1, 2

## RES 0402 620R 1%
designator C?, comment 620R
620R 1% 62.5mW 0402 Thick Film Resistor; Manufacturer: FOJAN; Manufacturer Part Number: FRC0402F6200TS; Voltage Rating: 50V; Supplier: LCSC; Supplier Part Number: C2909374; Resistance: 620R; Tolerance: 1%; Power: 62.5mW
footprint RES SMD 0402
pins: 1, 2

## RES 0402 634R 1%
designator C?, comment 634R
634R 1% 62.5mW 0402 Thick Film Resistor; Manufacturer: FOJAN; Manufacturer Part Number: FRC0402F6340TS; Voltage Rating: 50V; Supplier: LCSC; Supplier Part Number: C2998183; Resistance: 634R; Tolerance: 1%; Power: 62.5mW
footprint RES SMD 0402
pins: 1, 2

## RES 0402 649k 1%
designator C?, comment 649k
649kR 1% 62.5mW 0402 Thick Film Resistor; Manufacturer: FOJAN; Manufacturer Part Number: FRC0402F6493TS; Voltage Rating: 50V; Supplier: LCSC; Supplier Part Number: C5126038; Resistance: 649k; Tolerance: 1%; Power: 62.5mW
footprint RES SMD 0402
pins: 1, 2

## RES 0402 649R 1%
designator C?, comment 649R
649R 1% 62.5mW 0402 Thick Film Resistor; Manufacturer: FOJAN; Manufacturer Part Number: FRC0402F6490TS; Voltage Rating: 50V; Supplier: LCSC; Supplier Part Number: C5126215; Resistance: 649R; Tolerance: 1%; Power: 62.5mW
footprint RES SMD 0402
pins: 1, 2

## RES 0402 680k 1%
designator C?, comment 680k
680kR 1% 62.5mW 0402 Thick Film Resistor; Manufacturer: FOJAN; Manufacturer Part Number: FRC0402F6803TS; Voltage Rating: 50V; Supplier: LCSC; Supplier Part Number: C2909377; Resistance: 680k; Tolerance: 1%; Power: 62.5mW
footprint RES SMD 0402
pins: 1, 2

## RES 0402 680R 1%
designator C?, comment 680R
680R 1% 62.5mW 0402 Thick Film Resistor; Manufacturer: FOJAN; Manufacturer Part Number: FRC0402F6800TS; Voltage Rating: 50V; Supplier: LCSC; Supplier Part Number: C2909378; Resistance: 680R; Tolerance: 1%; Power: 62.5mW
footprint RES SMD 0402
pins: 1, 2

## RES 0402 680R 5%
designator C?, comment 680R
680R 5% 62.5mW 0402 Thick Film Resistor; Manufacturer: FOJAN; Manufacturer Part Number: FRC0402J681 TS; Voltage Rating: 50V; Supplier: LCSC; Supplier Part Number: C2906959; Resistance: 680R; Tolerance: 5%; Power: 62.5mW
footprint RES SMD 0402
pins: 1, 2

## RES 0402 698R 1%
designator C?, comment 698R
698R 1% 62.5mW 0402 Thick Film Resistor; Manufacturer: FOJAN; Manufacturer Part Number: FRC0402F6980TS; Voltage Rating: 50V; Supplier: LCSC; Supplier Part Number: C2998096; Resistance: 698R; Tolerance: 1%; Power: 62.5mW
footprint RES SMD 0402
pins: 1, 2

## RES 0402 715k 1%
designator C?, comment 715k
715kR 1% 62.5mW 0402 Thick Film Resistor; Manufacturer: FOJAN; Manufacturer Part Number: FRC0402F7153TS; Voltage Rating: 50V; Supplier: LCSC; Supplier Part Number: C5126240; Resistance: 715k; Tolerance: 1%; Power: 62.5mW
footprint RES SMD 0402
pins: 1, 2

## RES 0402 715R 1%
designator C?, comment 715R
62.5mW 715R 50V Thick Film Resistor 1% 100ppm/â„ƒ 0402 Chip Resistor - Surface Mount RoHS; Manufacturer: FOJAN; Manufacturer Part Number: FRC0402F7150TS; Supplier: LCSC; Supplier Part Number: C7467461; Resistance: 715R; Tolerance: 1%; Voltage Rating: 50V; Power: 62.5mW
footprint RES SMD 0402
pins: 1, 2

## RES 0402 732k 1%
designator C?, comment 732k
732kR 1% 62.5mW 0402 Thick Film Resistor; Manufacturer: FOJAN; Manufacturer Part Number: FRC0402F7323TS; Voltage Rating: 50V; Supplier: LCSC; Supplier Part Number: C5159692; Resistance: 732k; Tolerance: 1%; Power: 62.5mW
footprint RES SMD 0402
pins: 1, 2

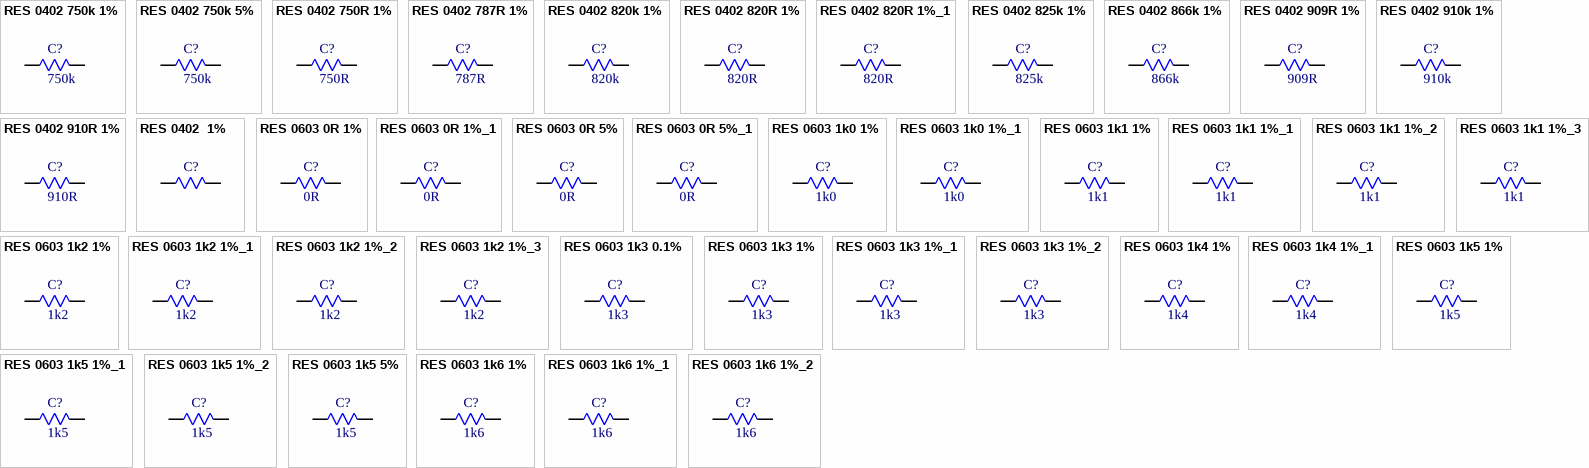
[diagram p15: symbols RES 0402 750k 1% to RES 0603 1k6 1%_2]

## RES 0402 750k 1%
designator C?, comment 750k
750kR 1% 62.5mW 0402 Thick Film Resistor; Manufacturer: FOJAN; Manufacturer Part Number: FRC0402F7503TS; Voltage Rating: 50V; Supplier: LCSC; Supplier Part Number: C2909381; Resistance: 750k; Tolerance: 1%; Power: 62.5mW
footprint RES SMD 0402
pins: 1, 2

## RES 0402 750k 5%
designator C?, comment 750k
750kR 5% 62.5mW 0402 Thick Film Resistor; Manufacturer: FOJAN; Manufacturer Part Number: FRC0402J754 TS; Voltage Rating: 50V; Supplier: LCSC; Supplier Part Number: C2960881; Resistance: 750k; Tolerance: 5%; Power: 62.5mW
footprint RES SMD 0402
pins: 1, 2

## RES 0402 750R 1%
designator C?, comment 750R
750R 1% 62.5mW 0402 Thick Film Resistor; Manufacturer: FOJAN; Manufacturer Part Number: FRC0402F7500TS; Voltage Rating: 50V; Supplier: LCSC; Supplier Part Number: C2909382; Resistance: 750R; Tolerance: 1%; Power: 62.5mW
footprint RES SMD 0402
pins: 1, 2

## RES 0402 787R 1%
designator C?, comment 787R
62.5mW 787R 50V Thick Film Resistor 100ppm/â„ƒ 1% 0402 Chip Resistor - Surface Mount RoHS; Manufacturer: FOJAN; Manufacturer Part Number: FRC0402F7870TS; Supplier: LCSC; Supplier Part Number: C51048317; Resistance: 787R; Tolerance: 1%; Voltage Rating: 50V; Power: 62.5mW
footprint RES SMD 0402
pins: 1, 2

## RES 0402 820k 1%
designator C?, comment 820k
820kR 1% 62.5mW 0402 Thick Film Resistor; Manufacturer: FOJAN; Manufacturer Part Number: FRC0402F8203TS; Voltage Rating: 50V; Supplier: LCSC; Supplier Part Number: C2909386; Resistance: 820k; Tolerance: 1%; Power: 62.5mW
footprint RES SMD 0402
pins: 1, 2

## RES 0402 820R 1%
designator C?, comment 820R
820R 1% 62.5mW 0402 Thick Film Resistor; Manufacturer: FOJAN; Manufacturer Part Number: FRC0402F8200TS; Voltage Rating: 50V; Supplier: LCSC; Supplier Part Number: C2909387; Resistance: 820R; Tolerance: 1%; Power: 62.5mW
footprint RES SMD 0402
pins: 1, 2

## RES 0402 820R 1%_1
designator C?, comment 820R
820R 1% 62.5mW 0402 Thick Film Resistor; Manufacturer: FOJAN; Manufacturer Part Number: FRQ0402F8200TS; Voltage Rating: 50V; Supplier: LCSC; Supplier Part Number: C19267411; Resistance: 820R; Tolerance: 1%; Power: 62.5mW
footprint RES SMD 0402
pins: 1, 2

## RES 0402 825k 1%
designator C?, comment 825k
825kR 1% 62.5mW 0402 Thick Film Resistor; Manufacturer: FOJAN; Manufacturer Part Number: FRC0402F8253TS; Voltage Rating: 50V; Supplier: LCSC; Supplier Part Number: C5126097; Resistance: 825k; Tolerance: 1%; Power: 62.5mW
footprint RES SMD 0402
pins: 1, 2

## RES 0402 866k 1%
designator C?, comment 866k
62.5mW 866kR 50V Thick Film Resistor 100ppm/â„ƒ 1% 0402 Chip Resistor - Surface Mount RoHS; Manufacturer: FOJAN; Manufacturer Part Number: FRC0402F8663TS; Supplier: LCSC; Supplier Part Number: C48533739; Resistance: 866k; Tolerance: 1%; Voltage Rating: 50V; Power: 62.5mW
footprint RES SMD 0402
pins: 1, 2

## RES 0402 909R 1%
designator C?, comment 909R
909R 1% 62.5mW 0402 Thick Film Resistor; Manufacturer: FOJAN; Manufacturer Part Number: FRC0402F9090TS; Voltage Rating: 50V; Supplier: LCSC; Supplier Part Number: C2998156; Resistance: 909R; Tolerance: 1%; Power: 62.5mW
footprint RES SMD 0402
pins: 1, 2

## RES 0402 910k 1%
designator C?, comment 910k
910kR 1% 62.5mW 0402 Thick Film Resistor; Manufacturer: FOJAN; Manufacturer Part Number: FRC0402F9103TS; Voltage Rating: 50V; Supplier: LCSC; Supplier Part Number: C2909391; Resistance: 910k; Tolerance: 1%; Power: 62.5mW
footprint RES SMD 0402
pins: 1, 2

## RES 0402 910R 1%
designator C?, comment 910R
910R 1% 62.5mW 0402 Thick Film Resistor; Manufacturer: FOJAN; Manufacturer Part Number: FRC0402F9100TS; Voltage Rating: 50V; Supplier: LCSC; Supplier Part Number: C2909392; Resistance: 910R; Tolerance: 1%; Power: 62.5mW
footprint RES SMD 0402
pins: 1, 2

## RES 0402  1%
designator C?
62.5mW 50V Thick Film Resistor 1% 0402 Chip Resistor - Surface Mount RoHS; Manufacturer: FOJAN; Manufacturer Part Number: FRQ0402F0000TS; Supplier: LCSC; Supplier Part Number: C52033547; Tolerance: 1%; Voltage Rating: 50V; Power: 62.5mW
footprint RES SMD 0402
pins: 1, 2

## RES 0603 0R 1%
designator C?, comment 0R
100mW 0R 75V Thick Film Resistor 1% 0603 Chip Resistor - Surface Mount RoHS; Manufacturer: FOJAN; Manufacturer Part Number: FRC0603F0000TS; Supplier: LCSC; Supplier Part Number: C2906974; Resistance: 0R; Tolerance: 1%; Voltage Rating: 75V; Power: 100mW
footprint RES SMD 0603
pins: 1, 2

## RES 0603 0R 1%_1
designator C?, comment 0R
0R 100mW Thick Film Resistor 1% 0603 Chip Resistor - Surface Mount RoHS; Manufacturer: FOJAN; Manufacturer Part Number: FRQ0603F0000TS; Supplier: LCSC; Supplier Part Number: C7468558; Resistance: 0R; Tolerance: 1%; Power: 100mW
footprint RES SMD 0603
pins: 1, 2

## RES 0603 0R 5%
designator C?, comment 0R
100mW 0R 75V Thick Film Resistor 5% 0603 Chip Resistor - Surface Mount RoHS; Manufacturer: FOJAN; Manufacturer Part Number: FRC0603P000 TS; Supplier: LCSC; Supplier Part Number: C2907080; Resistance: 0R; Tolerance: 5%; Voltage Rating: 75V; Power: 100mW
footprint RES SMD 0603
pins: 1, 2

## RES 0603 0R 5%_1
designator C?, comment 0R
0R 100mW Thick Film Resistor 5% 0603 Chip Resistor - Surface Mount RoHS; Manufacturer: FOJAN; Manufacturer Part Number: FRQ0603P000 TS; Supplier: LCSC; Supplier Part Number: C7468418; Resistance: 0R; Tolerance: 5%; Power: 100mW
footprint RES SMD 0603
pins: 1, 2

## RES 0603 1k0 1%
designator C?, comment 1k0
1.07kR 1% 100mW 0603 Thick Film Resistor; Manufacturer: FOJAN; Manufacturer Part Number: FRC0603F1071TS; Voltage Rating: 75V; Supplier: LCSC; Supplier Part Number: C5159699; Resistance: 1k0; Tolerance: 1%; Power: 100mW
footprint RES SMD 0603
pins: 1, 2

## RES 0603 1k0 1%_1
designator C?, comment 1k0
1.05kR 1% 100mW 0603 Thick Film Resistor; Manufacturer: FOJAN; Manufacturer Part Number: FRC0603F1051TS; Voltage Rating: 75V; Supplier: LCSC; Supplier Part Number: C2930047; Resistance: 1k0; Tolerance: 1%; Power: 100mW
footprint RES SMD 0603
pins: 1, 2

## RES 0603 1k1 1%
designator C?, comment 1k1
1.1kR 1% 100mW 0603 Thick Film Resistor; Manufacturer: FOJAN; Manufacturer Part Number: FRC0603F1101TS; Voltage Rating: 75V; Supplier: LCSC; Supplier Part Number: C2906975; Resistance: 1k1; Tolerance: 1%; Power: 100mW
footprint RES SMD 0603
pins: 1, 2

## RES 0603 1k1 1%_1
designator C?, comment 1k1
1.13kR 1% 100mW 0603 Thick Film Resistor; Manufacturer: FOJAN; Manufacturer Part Number: FRC0603F1131TS; Voltage Rating: 75V; Supplier: LCSC; Supplier Part Number: C5154019; Resistance: 1k1; Tolerance: 1%; Power: 100mW
footprint RES SMD 0603
pins: 1, 2

## RES 0603 1k1 1%_2
designator C?, comment 1k1
1.18kR 1% 100mW 0603 Thick Film Resistor; Manufacturer: FOJAN; Manufacturer Part Number: FRC0603F1181TS; Voltage Rating: 75V; Supplier: LCSC; Supplier Part Number: C3000716; Resistance: 1k1; Tolerance: 1%; Power: 100mW
footprint RES SMD 0603
pins: 1, 2

## RES 0603 1k1 1%_3
designator C?, comment 1k1
1.15kR 1% 100mW 0603 Thick Film Resistor; Manufacturer: FOJAN; Manufacturer Part Number: FRC0603F1151TS; Voltage Rating: 75V; Supplier: LCSC; Supplier Part Number: C2998059; Resistance: 1k1; Tolerance: 1%; Power: 100mW
footprint RES SMD 0603
pins: 1, 2

## RES 0603 1k2 1%
designator C?, comment 1k2
1.2kR 1% 100mW 0603 Thick Film Resistor; Manufacturer: FOJAN; Manufacturer Part Number: FRQ0603F1201TS; Voltage Rating: 75V; Supplier: LCSC; Supplier Part Number: C42372213; Resistance: 1k2; Tolerance: 1%; Power: 100mW
footprint RES SMD 0603
pins: 1, 2

## RES 0603 1k2 1%_1
designator C?, comment 1k2
1.21kR 1% 100mW 0603 Thick Film Resistor; Manufacturer: FOJAN; Manufacturer Part Number: FRC0603F1211TS; Voltage Rating: 75V; Supplier: LCSC; Supplier Part Number: C5126242; Resistance: 1k2; Tolerance: 1%; Power: 100mW
footprint RES SMD 0603
pins: 1, 2

## RES 0603 1k2 1%_2
designator C?, comment 1k2
1.2kR 1% 100mW 0603 Thick Film Resistor; Manufacturer: FOJAN; Manufacturer Part Number: FRC0603F1201TS; Voltage Rating: 75V; Supplier: LCSC; Supplier Part Number: C2906976; Resistance: 1k2; Tolerance: 1%; Power: 100mW
footprint RES SMD 0603
pins: 1, 2

## RES 0603 1k2 1%_3
designator C?, comment 1k2
1.2kR 100mW 75V Thick Film Resistor 100ppm/â„ƒ 1% 0603 Chip Resistor - Surface Mount RoHS; Manufacturer: FOJAN; Manufacturer Part Number: FRR0603F1021TS; Supplier: LCSC; Supplier Part Number: C49196758; Resistance: 1k2; Tolerance: 1%; Voltage Rating: 75V; Power: 100mW
footprint RES SMD 0603
pins: 1, 2

## RES 0603 1k3 0.1%
designator C?, comment 1k3
1.37kR 100mW 75V Thick Film Resistor 100ppm/â„ƒ 0.1% 0603 Chip Resistor - Surface Mount RoHS; Manufacturer: FOJAN; Manufacturer Part Number: FRH0603B1371TS; Supplier: LCSC; Supplier Part Number: C48533787; Resistance: 1k3; Tolerance: 0.1%; Voltage Rating: 75V; Power: 100mW
footprint RES SMD 0603
pins: 1, 2

## RES 0603 1k3 1%
designator C?, comment 1k3
1.3kR 1% 100mW 0603 Thick Film Resistor; Manufacturer: FOJAN; Manufacturer Part Number: FRC0603F1301TS; Voltage Rating: 75V; Supplier: LCSC; Supplier Part Number: C2906977; Resistance: 1k3; Tolerance: 1%; Power: 100mW
footprint RES SMD 0603
pins: 1, 2

## RES 0603 1k3 1%_1
designator C?, comment 1k3
1.37kR 1% 100mW 0603 Thick Film Resistor; Manufacturer: FOJAN; Manufacturer Part Number: FRC0603F1371TS; Voltage Rating: 75V; Supplier: LCSC; Supplier Part Number: C2933142; Resistance: 1k3; Tolerance: 1%; Power: 100mW
footprint RES SMD 0603
pins: 1, 2

## RES 0603 1k3 1%_2
designator C?, comment 1k3
100mW 1.3kR 75V Thick Film Resistor 100ppm/â„ƒ 1% 0603 Chip Resistor - Surface Mount RoHS; Manufacturer: FOJAN; Manufacturer Part Number: FRQ0603F1301TS; Supplier: LCSC; Supplier Part Number: C49196899; Resistance: 1k3; Tolerance: 1%; Voltage Rating: 75V; Power: 100mW
footprint RES SMD 0603
pins: 1, 2

## RES 0603 1k4 1%
designator C?, comment 1k4
1.4kR 1% 100mW 0603 Thick Film Resistor; Manufacturer: FOJAN; Manufacturer Part Number: FRC0603F1401TS; Voltage Rating: 75V; Supplier: LCSC; Supplier Part Number: C2930049; Resistance: 1k4; Tolerance: 1%; Power: 100mW
footprint RES SMD 0603
pins: 1, 2

## RES 0603 1k4 1%_1
designator C?, comment 1k4
1.47kR 1% 100mW 0603 Thick Film Resistor; Manufacturer: FOJAN; Manufacturer Part Number: FRC0603F1471TS; Voltage Rating: 75V; Supplier: LCSC; Supplier Part Number: C2933147; Resistance: 1k4; Tolerance: 1%; Power: 100mW
footprint RES SMD 0603
pins: 1, 2

## RES 0603 1k5 1%
designator C?, comment 1k5
1.5kR 1% 100mW 0603 Thick Film Resistor; Manufacturer: FOJAN; Manufacturer Part Number: FRC0603F1501TS; Voltage Rating: 75V; Supplier: LCSC; Supplier Part Number: C2930050; Resistance: 1k5; Tolerance: 1%; Power: 100mW
footprint RES SMD 0603
pins: 1, 2

## RES 0603 1k5 1%_1
designator C?, comment 1k5
1.58kR 1% 100mW 0603 Thick Film Resistor; Manufacturer: FOJAN; Manufacturer Part Number: FRC0603F1581TS; Voltage Rating: 75V; Supplier: LCSC; Supplier Part Number: C5126099; Resistance: 1k5; Tolerance: 1%; Power: 100mW
footprint RES SMD 0603
pins: 1, 2